# EAGLE library part XR-210 (library exar)
FSK MODULATOR/DEMODULATOR
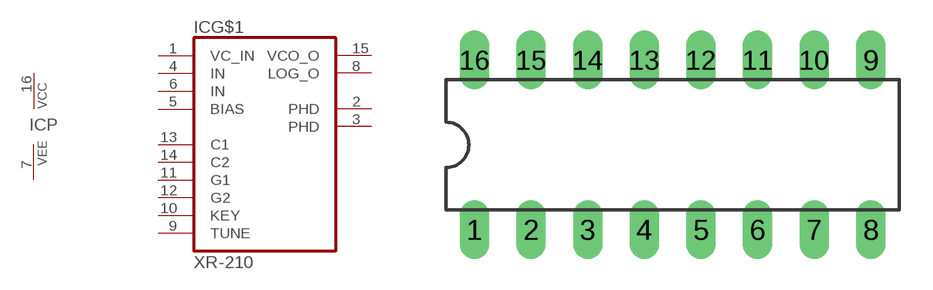
[diagram p101: symbol with the pads of DIL16; footprint DIL16]

Designator prefix IC; gates G$1=XR-210 P=PWR+/-

## XR-210 (OC_FARNELL: unknown; OC_NEWARK: unknown)  [DIL16]
1  G$1:VC_IN  in
2  G$1:PHD  out
3  G$1:PHD  out
4  G$1:IN  in
5  G$1:BIAS  in
6  G$1:IN  in
7  P:VEE  pwr
8  G$1:LOG_O  out
9  G$1:TUNE  in
10  G$1:KEY  in
11  G$1:G1  in
12  G$1:G2  in
13  G$1:C1  in
14  G$1:C2  in
15  G$1:VCO_O  out
16  P:VCC  pwr

## Footprint DIL16 (pad centres in mm)
Dual In Line Package
drill 0.813 long: 1 -8.89,-3.81; 2 -6.35,-3.81; 3 -3.81,-3.81; 4 -1.27,-3.81; 5 1.27,-3.81; 6 3.81,-3.81; 7 6.35,-3.81; 8 8.89,-3.81; 9 8.89,3.81; 10 6.35,3.81; 11 3.81,3.81; 12 1.27,3.81; 13 -1.27,3.81; 14 -3.81,3.81; 15 -6.35,3.81; 16 -8.89,3.81